# Altium footprint library LIB_COLLAR.PcbLib: 34 footprints (part 3 of 3)
Each footprint in its own frame and in the unit in brackets; x right, y up, seen from the top. Pads: shape width x height; smd on the part's side, far side on the other; paste and mask are expansions set on the pad; w line width, h text height; cw(c..) or ccw(c..) is an arc to the next point about the centre after c.
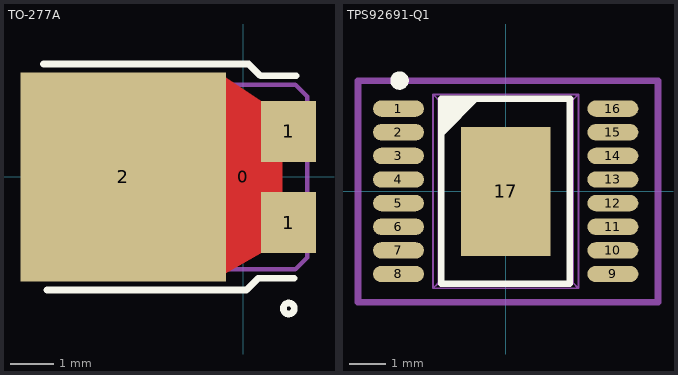
[diagram p2: the footprints below, top view; thin cyan lines are the x and y axes]

## TO-277A [mm]
pads (4):
  round 0.5 on Mech15: 0(0,0)
  rect 1.27x1.4 smd: 1(1.044,-1.05) 1(1.044,1.05)
  rect 4.72x4.8 smd paste-5.08: 2(-2.756,0)
Top Layer:
  pour cut-out: -0.9,0.91 -0.425,2.3 0.4,1.75 0.9,0.91 0.9,-0.9 0.4,-1.75 -0.425,-2.225 -0.9,-0.9
Top Overlay:
  circle w0.152: c1.05,-3.025 r0.127
  lines w0.15: 0.075,-2.6 0.35,-2.325 1.175,-2.325 ; 0.125,2.6 0.4,2.325 1.225,2.325
  lines w0.152: -4.592,2.6 0.125,2.6 ; -4.511,-2.6 0.075,-2.6
Top Paste:
  rectangle: -4.775,0.5 -3.175,2.075
  rectangle: -2.35,0.5 -0.75,2.075
  rectangle: -2.35,-2.075 -0.75,-0.5
  rectangle: -4.775,-2.075 -3.175,-0.5
Mechanical 1:
  lines w0.1: -4.675,-1.975 -4.675,1.95 -4.5,2.125 1.2,2.125 1.475,1.85 1.475,-1.85 1.2,-2.125 -4.525,-2.125 -4.675,-1.975
3D body: height 1.2, standoff 0, extent -4.675,-2.125 1.475,2.125
3D body: height 0.5, standoff 0, extent -4.975,-1.75 -4.675,1.6
3D body: height 0.5, standoff 0, extent -1.325,-2.275 -0.425,2.3
3D body: height 0.5, standoff 0, extent 0.1,0.475 1.6,1.625
3D body: height 0.5, standoff 0, extent 0.1,-1.65 1.6,-0.5

## TPS92691-Q1 [mm] "LED Driver IC  DC DC Controller Flyback, SEPIC, Step-Down , Step-Up, Analog, PWM Dimming"
pads (17):
  oval 1.4x0.45 smd: 1(-2.95,2.275) 2(-2.95,1.625) 3(-2.95,0.975) 4(-2.95,0.325) 5(-2.95,-0.325) 6(-2.95,-0.975) 7(-2.95,-1.625) 8(-2.95,-2.275) 9(2.95,-2.275) 10(2.95,-1.625) 11(2.95,-0.975) 12(2.95,-0.325) 13(2.95,0.325) 14(2.95,0.975) 15(2.95,1.625) 16(2.95,2.275)
  rect 2.46x3.55 smd: 17(0,0)
Top Overlay:
  circle w0.254: c-2.921,3.048 r0.127
  region: -1.722,2.534 -0.722,2.534 -1.722,1.534
  lines w0.18: -1.778,2.55 1.778,2.55 ; -1.768,-2.54 -1.768,2.516 ; -1.754,-2.55 1.754,-2.55 ; 1.768,-2.54 1.768,2.516
Mechanical 13:
  circle w0.05: c-1.581,2.305 r0.15
  lines w0.05: -1.851,-2.54 -1.851,2.54 ; 1.816,-2.54 -1.873,-2.54 -2,-2.667 ; 1.851,2.54 1.851,-2.518 2,-2.667 ; -2,-2.667 -2,2.667 ; -2,-2.667 2,-2.667 ; -2,2.667 -1.873,2.54 1.873,2.54 2,2.667 ; -2,2.667 2,2.667 ; 2,-2.667 2,2.667
Mechanical 15:
  lines w0.18: -4.064,-3.048 4.191,-3.048 4.191,3.048 -4.064,3.048 -4.064,-3.048
3D body "MXA16A.stp": height 1.09, standoff 0, extent -3.2,-2.553 3.2,2.553